# EAGLE library part 74LCX125MTCX (library 74LCX125MTCX)
ON Semiconductor 74LCX125MTCX Quad Buffer & Line Driver, 3-State, 2 3.6 V, 14-Pin TSSOP Source: Datasheet <https://www.onsemi.com/pub/Collateral/74LCX125-D.pdf>
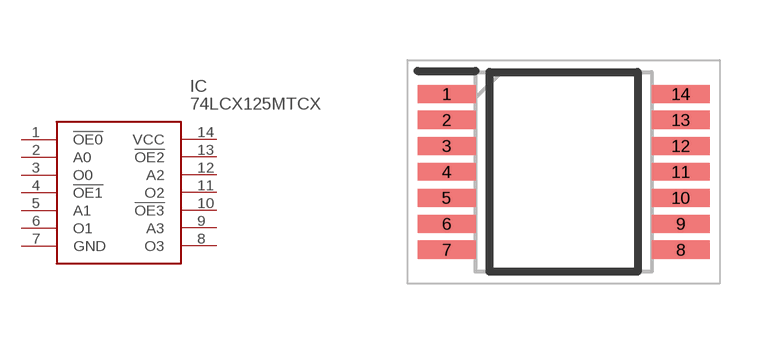
[diagram p0: symbol with the pads of SOP65P640X120-14N; footprint SOP65P640X120-14N]

Designator prefix IC

## 74LCX125MTCX (Description: ON Semiconductor 74LCX125MTCX Quad Buffer & Line Driver, 3-State, 2 3.6 V, 14-Pin TSSOP; Height: 1.2mm; Manufacturer_Name: onsemi; Manufacturer_Part_Number: 74LCX125MTCX; Mouser_Part_Number: 512-74LCX125MTCX; Mouser_Price-Stock: https://www.mouser.co.uk/ProductDetail/ON-Semiconductor-Fairchild/74LCX125MTCX?qs=aUdwP37Aar2vZaAsYMgo4Q%3D%3D)  [SOP65P640X120-14N]
1  !OE0
2  A0
3  O0
4  !OE1
5  A1
6  O1
7  GND
8  O3
9  A3
10  !OE3
11  O2
12  A2
13  !OE2
14  VCC

## Footprint SOP65P640X120-14N (pad centres in mm)
TSSOP14 CASE 948G
smd 1.45 x 0.45: 1 -2.925,1.95; 2 -2.925,1.3; 3 -2.925,0.65; 4 -2.925,0; 5 -2.925,-0.65; 6 -2.925,-1.3; 7 -2.925,-1.95; 8 2.925,-1.95; 9 2.925,-1.3; 10 2.925,-0.65; 11 2.925,0; 12 2.925,0.65; 13 2.925,1.3; 14 2.925,1.95